# EAGLE library part RN-42 (library Kemper-DigitalIC)
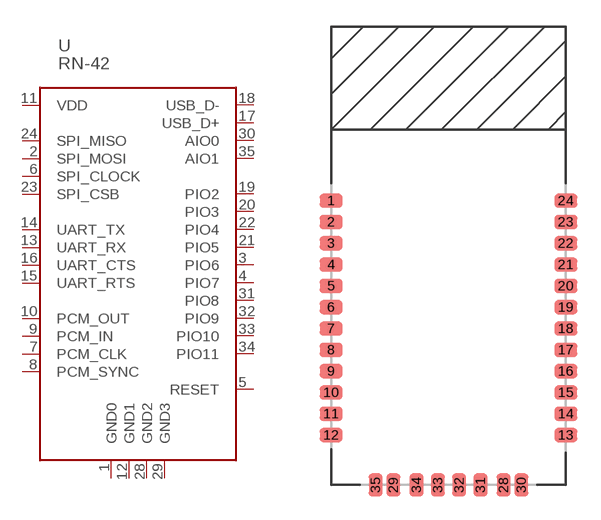
[diagram p1: symbol with the pads of RN-42; footprint RN-42]

Designator prefix U

## RN-42 (SPARKFUN: WRL-10253)  [RN-42]
1  GND0
2  SPI_MOSI
3  PIO6
4  PIO7
5  RESET
6  SPI_CLOCK
7  PCM_CLK
8  PCM_SYNC
9  PCM_IN
10  PCM_OUT
11  VDD
12  GND1
13  UART_RX
14  UART_TX
15  UART_RTS
16  UART_CTS
17  USB_D+
18  USB_D-
19  PIO2
20  PIO3
21  PIO5
22  PIO4
23  SPI_CSB
24  SPI_MISO
28  GND2
29  GND3
30  AIO0
31  PIO8
32  PIO9
33  PIO10
34  PIO11
35  AIO1

## Footprint RN-42 (pad centres in mm)
smd 1.3 x 0.8: 1 -13.2,16; 2 -13.2,14.8; 3 -13.2,13.6; 4 -13.2,12.4; 5 -13.2,11.2; 6 -13.2,10; 7 -13.2,8.8; 8 -13.2,7.6; 9 -13.2,6.4; 10 -13.2,5.2; 11 -13.2,4; 12 -13.2,2.8; 13 0,2.8; 14 0,4; 15 0,5.2; 16 0,6.4; 17 0,7.6; 18 0,8.8; 19 0,10; 20 0,11.2; 21 0,12.4; 22 0,13.6; 23 0,14.8; 24 0,16
smd 0.8 x 1.3: 28 -3.5,0; 29 -9.7,0; 30 -2.5,0; 31 -4.8,0; 32 -6,0; 33 -7.2,0; 34 -8.4,0; 35 -10.7,0